# EAGLE library part EF37A (library wheat)
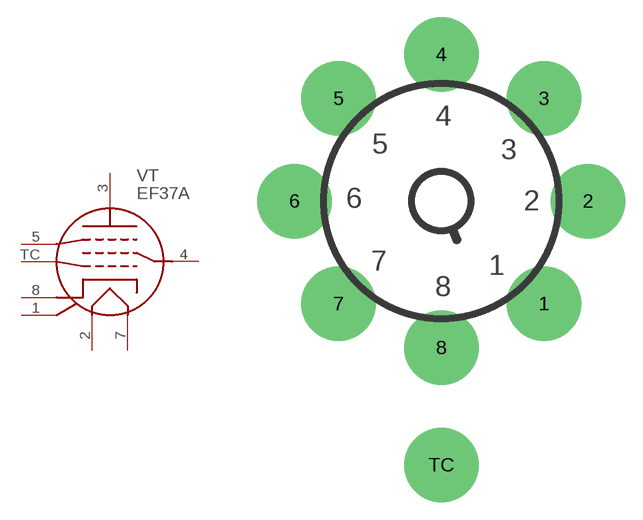
[diagram p223: symbol with the pads of OCTAL_TC; footprint OCTAL_TC]

Designator prefix VT

## EF37A  [OCTAL_TC]
1  M  pas
2  H1  pas
3  A  pas
4  G2  pas
5  G3  pas
7  H2  pas
8  K  pas
TC  G1  pas

## Footprint OCTAL_TC (pad centres in mm)
drill 2.54 pad 6.452: 1 8.89,-8.89; 2 12.7,0; 3 8.89,8.89; 4 0,12.7; 5 -8.89,8.89; 6 -12.7,0; 7 -8.89,-8.89; 8 0,-12.7; TC 0,-22.86